# EAGLE library part A1919_AARDVARK (library trimble)
Aardvark GPS+DR Receiver Module SMD GPS Dead-Reckoning Receiver module, made by Trimble Inc., Embedded Systems Group <http://www.trimble.com/embeddedsystems/> Partnumber: 88788-xx Datasheet, User Manual and Tools <http://www.trimble.com/embeddedsystems/aardvark.aspx> Created by Trimble Inc., Author: Christian Voit <mailto:christian_voit@trimble.com?subject=Trimble Eagle Library>
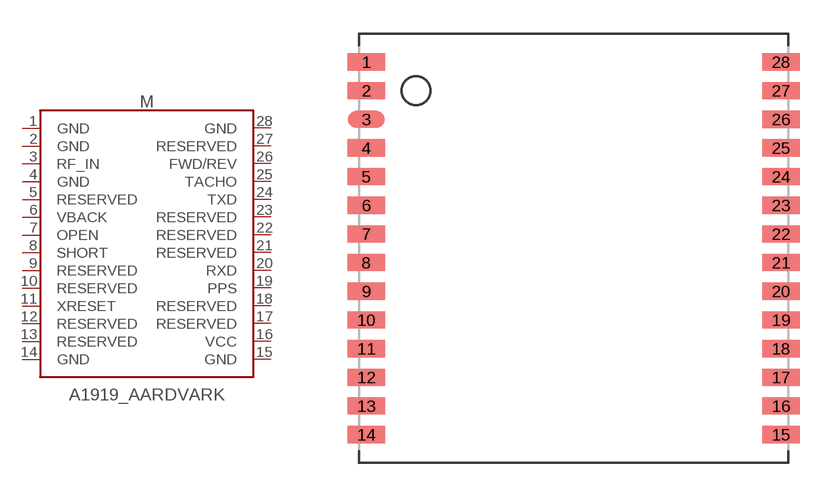
[diagram p10: symbol with the pads of 1919-AARDVARK; footprint 1919-AARDVARK]

Designator prefix M

## A1919_AARDVARK-SMD  [1919-AARDVARK]
1  GND  pwr
2  GND  pwr
3  RF_IN  in
4  GND  pwr
5  RESERVED  nc
6  VBACK  in
7  OPEN  in
8  SHORT  in
9  RESERVED  nc
10  RESERVED  nc
11  XRESET  in
12  RESERVED  nc
13  RESERVED  nc
14  GND  pwr
15  GND  pwr
16  VCC  pwr
17  RESERVED  nc
18  RESERVED  nc
19  PPS  out
20  RXD  in
21  RESERVED  nc
22  RESERVED  nc
23  RESERVED  nc
24  TXD  out
25  TACHO  in
26  FWD/REV  in
27  RESERVED  nc
28  GND  pwr

## Footprint 1919-AARDVARK (pad centres in mm)
Package 1919-Aardvark, 28-pads Size: 19 mm x 19 mm x 2.54 mm 28 SMD edge-castellation pads, 1.27 mm pad-pitch by Trimble Inc., Embedded Systems Group <https://www.trimble.com/embeddedsystems/aardvark_dr.aspx> Used for: Aardvark Created by Trimble Inc., Author: Christian Voit <mailto:christian_voit@trimble.com?subject=Trimble Eagle Library>
smd 1.651 x 0.762: 1 -9.182,8.255; 2 -9.182,6.985; 3 -9.182,5.715; 4 -9.182,4.445; 5 -9.182,3.175; 6 -9.182,1.905; 7 -9.182,0.635; 8 -9.182,-0.635; 9 -9.182,-1.905; 10 -9.182,-3.175; 11 -9.182,-4.445; 12 -9.182,-5.715; 13 -9.182,-6.985; 14 -9.182,-8.255; 15 9.182,-8.255; 16 9.182,-6.985; 17 9.182,-5.715; 18 9.182,-4.445; 19 9.182,-3.175; 20 9.182,-1.905; 21 9.182,-0.635; 22 9.182,0.635; 23 9.182,1.905; 24 9.182,3.175; 25 9.182,4.445; 26 9.182,5.715; 27 9.182,6.985; 28 9.182,8.255